# Altium footprint library ESP32-S3-DEVKITC-1-N8R2.PcbLib: 1 footprints
Each footprint in its own frame and in the unit in brackets; x right, y up, seen from the top. Pads: shape width x height; smd on the part's side, far side on the other; paste and mask are expansions set on the pad; w line width, h text height; cw(c..) or ccw(c..) is an arc to the next point about the centre after c.
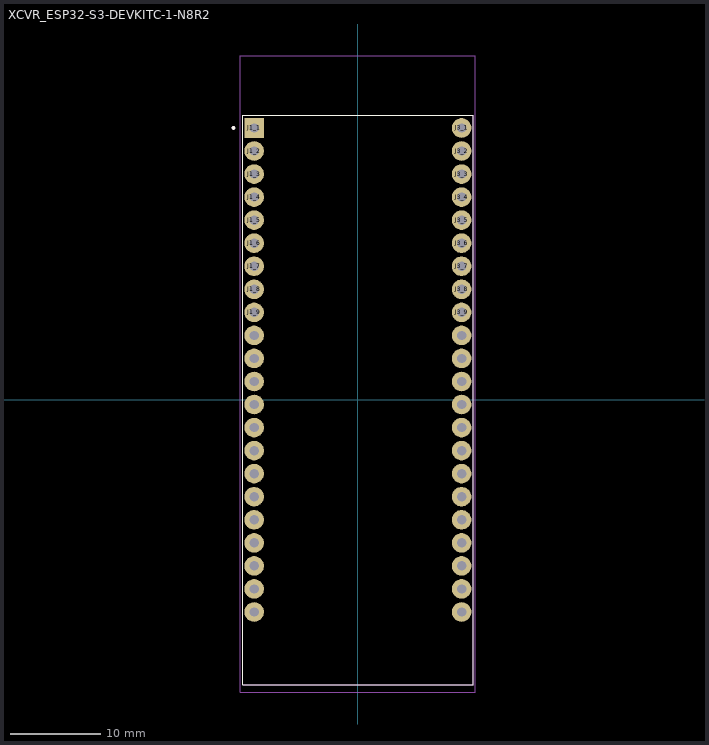
[diagram p0: the footprint, top view; thin cyan lines are the x and y axes]

## XCVR_ESP32-S3-DEVKITC-1-N8R2 [mil]
pads (44):
  rect 85x85 / inner round 85 / far side rect 85x85 hole 40.16: J1_1(-450,1179.92)
  round 85 hole 40.16: J1_2(-450,1079.92) J1_3(-450,979.92) J1_4(-450,879.92) J1_5(-450,779.92) J1_6(-450,679.92) J1_7(-450,579.92) J1_8(-450,479.92) J1_9(-450,379.92) J1_10(-450,279.92) J1_11(-450,179.92) J1_12(-450,79.92) J1_13(-450,-20.08) J1_14(-450,-120.08) J1_15(-450,-220.08) J1_16(-450,-320.08) J1_17(-450,-420.08) J1_18(-450,-520.08) J1_19(-450,-620.08) J1_20(-450,-720.08) J1_21(-450,-820.08) J1_22(-450,-920.08) J3_1(450,1179.92) J3_2(450,1079.92) J3_3(450,979.92) J3_4(450,879.92) J3_5(450,779.92) J3_6(450,679.92) J3_7(450,579.92) J3_8(450,479.92) J3_9(450,379.92) J3_10(450,279.92) J3_11(450,179.92) J3_12(450,79.92) J3_13(450,-20.08) J3_14(450,-120.08) J3_15(450,-220.08) J3_16(450,-320.08) J3_17(450,-420.08) J3_18(450,-520.08) J3_19(450,-620.08) J3_20(450,-720.08) J3_21(450,-820.08) J3_22(450,-920.08)
Top Overlay:
  circle w7.87: c-540,1180 r3.94
  lines w5: -500,-1235.04 -500,1235.04 500,1235.04 500,-1235.04 -500,-1235.04
Mechanical 13:
  circle w7.87: c-540,1180 r3.94
  lines w5: -500,-1235.04 -500,1235.04 500,1235.04 500,-1235.04 -500,-1235.04
Mechanical 15:
  lines w1.97: -509.84,-1268.11 -509.84,1492.91 509.84,1492.91 509.84,-1268.11 -509.84,-1268.11
3D body "step_temp.STEP": height 290.94, standoff -236.22, extent -500,-1258.27 500,1483.46